# Altium schematic symbol library 12kOHM.SCHLIB: 1 symbol
Pins are listed as number, name and electrical type; pins without a type are passive.

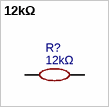
[diagram p0: symbol 12kΩ]

## 12kΩ
designator R?
Manufacturer: UNI-ROYAL(厚声); Manufacturer Part: 0805W8J0123T5E; nameAlias: Value; Supplier: LCSC; Supplier Part: C25616; JLCPCB Part Class: Extended Part; spicePre: R; spiceSymbolName: 0805W8J0123T5E
footprint R0805
pins: 1, 2